# Altium footprint library IC.PcbLib: 42 footprints (part 3 of 3)
Each footprint in its own frame and in the unit in brackets; x right, y up, seen from the top. Pads: shape width x height; smd on the part's side, far side on the other; paste and mask are expansions set on the pad; w line width, h text height; cw(c..) or ccw(c..) is an arc to the next point about the centre after c.
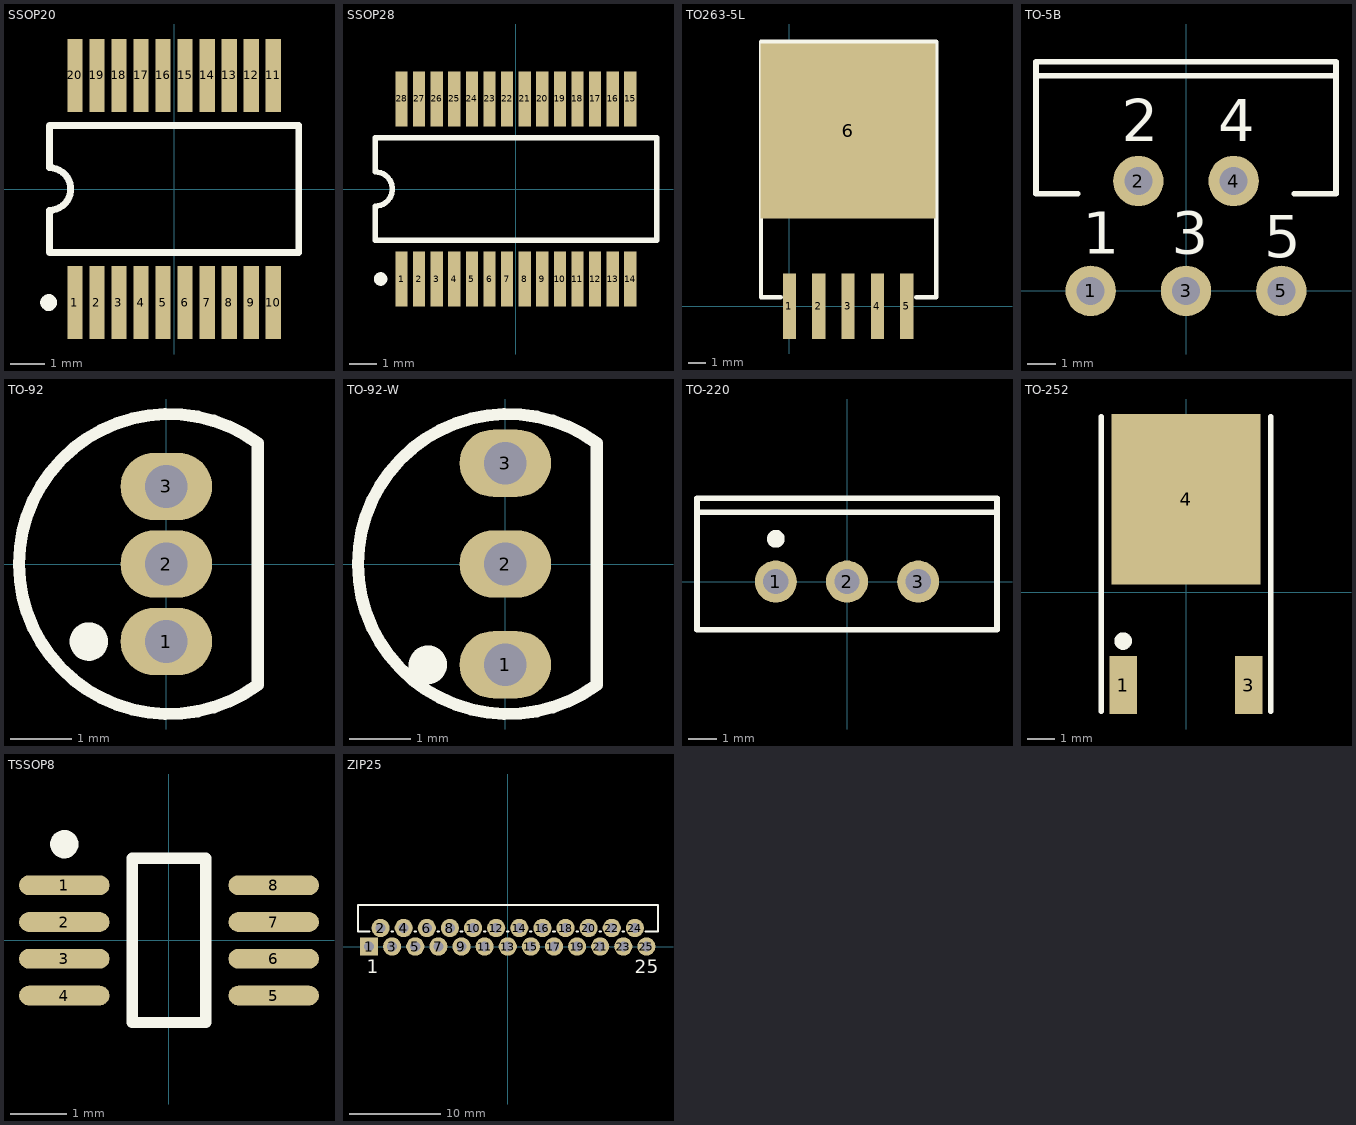
[diagram p2: the footprints below, top view; thin cyan lines are the x and y axes]

## SSOP20 [mm] "SSOP; 20 Leads; Body Width 5.3 mm; Pitch 0.65 mm"
height 1.99
pads (20):
  rect 0.45x2.15 smd: 1(-2.925,-3.35) 2(-2.275,-3.35) 3(-1.625,-3.35) 4(-0.975,-3.35) 5(-0.325,-3.35) 6(0.325,-3.35) 7(0.975,-3.35) 8(1.625,-3.35) 9(2.275,-3.35) 10(2.925,-3.35) 11(2.925,3.35) 12(2.275,3.35) 13(1.625,3.35) 14(0.975,3.35) 15(0.325,3.35) 16(-0.325,3.35) 17(-0.975,3.35) 18(-1.625,3.35) 19(-2.275,3.35) 20(-2.925,3.35)
Top Overlay:
  circle w0.25: c-3.7,-3.35 r0.125
  lines w0.2: -3.675,-1.875 -3.675,-0.625 ccw(c-3.675,0) -3.675,0.625 -3.675,1.875 3.675,1.875 3.675,-1.875 -3.675,-1.875

## SSOP28 [mm] "SSOP; 28 Leads; Body Width 5.3 mm; Pitch 0.65 mm"
height 1.99
pads (28):
  rect 0.45x2.05 smd: 1(-4.225,-3.325) 2(-3.575,-3.325) 3(-2.925,-3.325) 4(-2.275,-3.325) 5(-1.625,-3.325) 6(-0.975,-3.325) 7(-0.325,-3.325) 8(0.325,-3.325) 9(0.975,-3.325) 10(1.625,-3.325) 11(2.275,-3.325) 12(2.925,-3.325) 13(3.575,-3.325) 14(4.225,-3.325) 15(4.225,3.325) 16(3.575,3.325) 17(2.925,3.325) 18(2.275,3.325) 19(1.625,3.325) 20(0.975,3.325) 21(0.325,3.325) 22(-0.325,3.325) 23(-0.975,3.325) 24(-1.625,3.325) 25(-2.275,3.325) 26(-2.925,3.325) 27(-3.575,3.325) 28(-4.225,3.325)
Top Overlay:
  circle w0.25: c-5,-3.325 r0.125
  lines w0.2: -5.2,-1.9 5.2,-1.9 5.2,1.9 -5.2,1.9 -5.2,0.633 cw(c-5.2,0) -5.2,-0.633 -5.2,-1.9

## TO263-5L [mil] "LM2576"
pads (6):
  rect 30x150 smd: 1(0,0) 2(67,0) 3(134,0) 4(201,0) 5(268,0)
  rect 400x400 smd: 6(134,400)
Top Overlay:
  lines w10: -20,20 -65,20 -65,604 335,604 335,20 290,20

## TO-5B [mm] "TO, Thru-Hole, Vertical, Heatsink Mounted; 5 Bent Staggered Leads; Pitch 1.7 mm"
height 21.1
pads (5):
  round 1.8 hole 1: 1(-3.4,0) 2(-1.7,3.92) 3(0,0) 4(1.7,3.92) 5(3.4,0)
Top Overlay:
  lines w0.2: -5.35,7.67 5.35,7.67 ; -3.854,3.47 -5.35,3.47 -5.35,8.17 5.35,8.17 5.35,3.47 3.854,3.47
  text "1" at -3.683,1.325 h1.5
  text "5" at 2.794,1.198 h1.5
  text "3" at -0.508,1.325 h1.5
  text "2" at -2.286,5.334 h1.5
  text "4" at 1.143,5.334 h1.5

## TO-92 [mm] "TO, Flat Index; 3 In-Line, Axial Leads; Body Dia. 4.5mm; Leads 0.51 x 0.48 mm (max)"
height 6.86
pads (3):
  oval 1.5x1.1 hole 0.7: 1(0,-1.27) 2(0,0) 3(0,1.27)
Top Overlay:
  circle w0.381: c-1.268,-1.27 r0.125
  lines w0.2: 1.5,-1.98 cw(c0.044,0) 1.5,1.98 1.5,0.99 1.5,-0.99 1.5,-1.98

## TO-92-W [mm] "TO, Flat Index; 3 In-Line, Axial Leads; Body Dia. 4.5mm; Leads 0.51 x 0.48 mm (max)"
height 6.86
pads (3):
  oval 1.5x1.1 hole 0.7: 1(0,-1.651) 2(0,0) 3(0,1.651)
Top Overlay:
  circle w0.381: c-1.268,-1.651 r0.125
  lines w0.2: 1.5,-1.98 cw(c0.044,0) 1.5,1.98 1.5,0.99 1.5,-0.99 1.5,-1.98

## TO-220 [mm] "TO, Thru-Hole, Vertical, Heatsink Mounted; 3 In-Line Leads; Pitch 2.54 mm"
height 19.3
pads (3):
  round 1.5 hole 0.9: 1(-2.54,0) 2(0,0) 3(2.54,0)
Top Overlay:
  circle w0.381: c-2.538,1.524 r0.127
  lines w0.2: -5.35,2.477 5.35,2.477 ; -5.35,-1.723 -5.35,2.977 5.35,2.977 5.35,-1.723 -5.35,-1.723

## TO-252 [mm] "D-PAK/TO-252-AA; 3 Leads (1 Cropped); Body 10.1 (inc. leads) x 6.6 mm (LxW max)"
height 2.4
pads (3):
  rect 1x2.1 smd: 1(-2.285,-3.375) 3(2.285,-3.375)
  rect 5.4x6.2 smd: 4(0,3.375)
Top Overlay:
  circle w0.381: c-2.285,-1.775 r0.127
  lines w0.2: -3.085,-4.325 -3.085,6.375 ; 3.085,-4.325 3.085,6.375

## TSSOP8 [mm]
height 1.2
pads (8):
  oval 1.6x0.35 smd: 1(-1.85,0.975) 2(-1.85,0.325) 3(-1.85,-0.325) 4(-1.85,-0.975) 5(1.85,-0.975) 6(1.85,-0.325) 7(1.85,0.325) 8(1.85,0.975)
Top Overlay:
  circle w0.25: c-1.85,1.7 r0.125
  lines w0.2: -0.65,-1.45 -0.65,1.45 0.65,1.45 0.65,-1.45 -0.65,-1.45

## ZIP25 [mm] "TO, Thru-Hole, Vertical, Heatsink Mounted; 15 Bent Staggered Leads; Pitch 1.27 mm"
height 21
pads (25):
  rect 2x2 hole 1.1: 1(-15.24,0)
  round 2 hole 1.1: 2(-13.97,2.032) 3(-12.7,0) 4(-11.43,2.032) 5(-10.16,0) 6(-8.89,2.032) 7(-7.62,0) 8(-6.35,2.032) 9(-5.08,0) 10(-3.81,2.032) 11(-2.54,0) 12(-1.27,2.032) 13(0,0) 14(1.27,2.032) 15(2.54,0) 16(3.81,2.032) 17(5.08,0) 18(6.35,2.032) 19(7.62,0) 20(8.89,2.032) 21(10.16,0) 22(11.43,2.032) 23(12.7,0) 24(13.97,2.032) 25(15.24,0)
Top Overlay:
  lines w0.2: -15.15,1.632 -16.45,1.632 -16.45,4.572 16.51,4.572 16.51,1.632 15.113,1.632 ; -12.8,1.632 -12.6,1.632 ; -10.26,1.632 -10.06,1.632 ; -7.72,1.632 -7.52,1.632 ; -5.18,1.632 -4.98,1.632 ; -2.64,1.632 -2.44,1.632 ; -0.1,1.632 0.1,1.632 ; 2.44,1.632 2.64,1.632 ; 4.98,1.632 5.18,1.632 ; 7.52,1.632 7.72,1.632 ; 10.06,1.632 10.26,1.632 ; 12.6,1.632 12.8,1.632
  text "1" at -15.494,-2.921 h1.5
  text "25" at 13.97,-2.921 h1.5